# Altium schematic symbol library SCH - OPAMP - PGA280.SCHLIB: 1 symbol
Pins are listed as number, name and electrical type; pins without a type are passive.

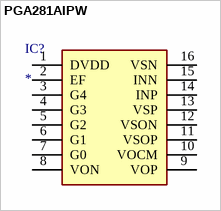
[diagram p0: symbol PGA281AIPW]

## PGA281AIPW
designator IC?
Integrated Circuit; Manufacturer_Name: Texas Instruments; Manufacturer_Part_Number: PGA281AIPW; Datasheet Link: http://www.ti.com/lit/gpn/pga281; Height: 1.2mm
footprint SOP65P640X120-16N
pins: 1 DVDD, 2 EF, 3 G4, 4 G3, 5 G2, 6 G1, 7 G0, 8 VON, 9 VOP, 10 VOCM, 11 VSOP, 12 VSON, 13 VSP, 14 INP, 15 INN, 16 VSN